# Altium schematic symbol library RES,1R,5%,0.25W,1206.Schlib: 1 symbol
Pins are listed as number, name and electrical type; pins without a type are passive.

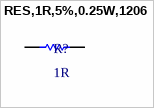
[diagram p0: symbol RES,1R,5%,0.25W,1206]

## RES,1R,5%,0.25W,1206
designator R?, comment 1R
1 Ohms ±5% 0.25W, 1/4W Chip Resistor 1206 (3216 Metric) Moisture Resistant Thick Film
pins: 1, 2